# Altium schematic symbol library PowerElectroincs.SchLib: 27 symbols
Pins are listed as number, name and electrical type; pins without a type are passive.

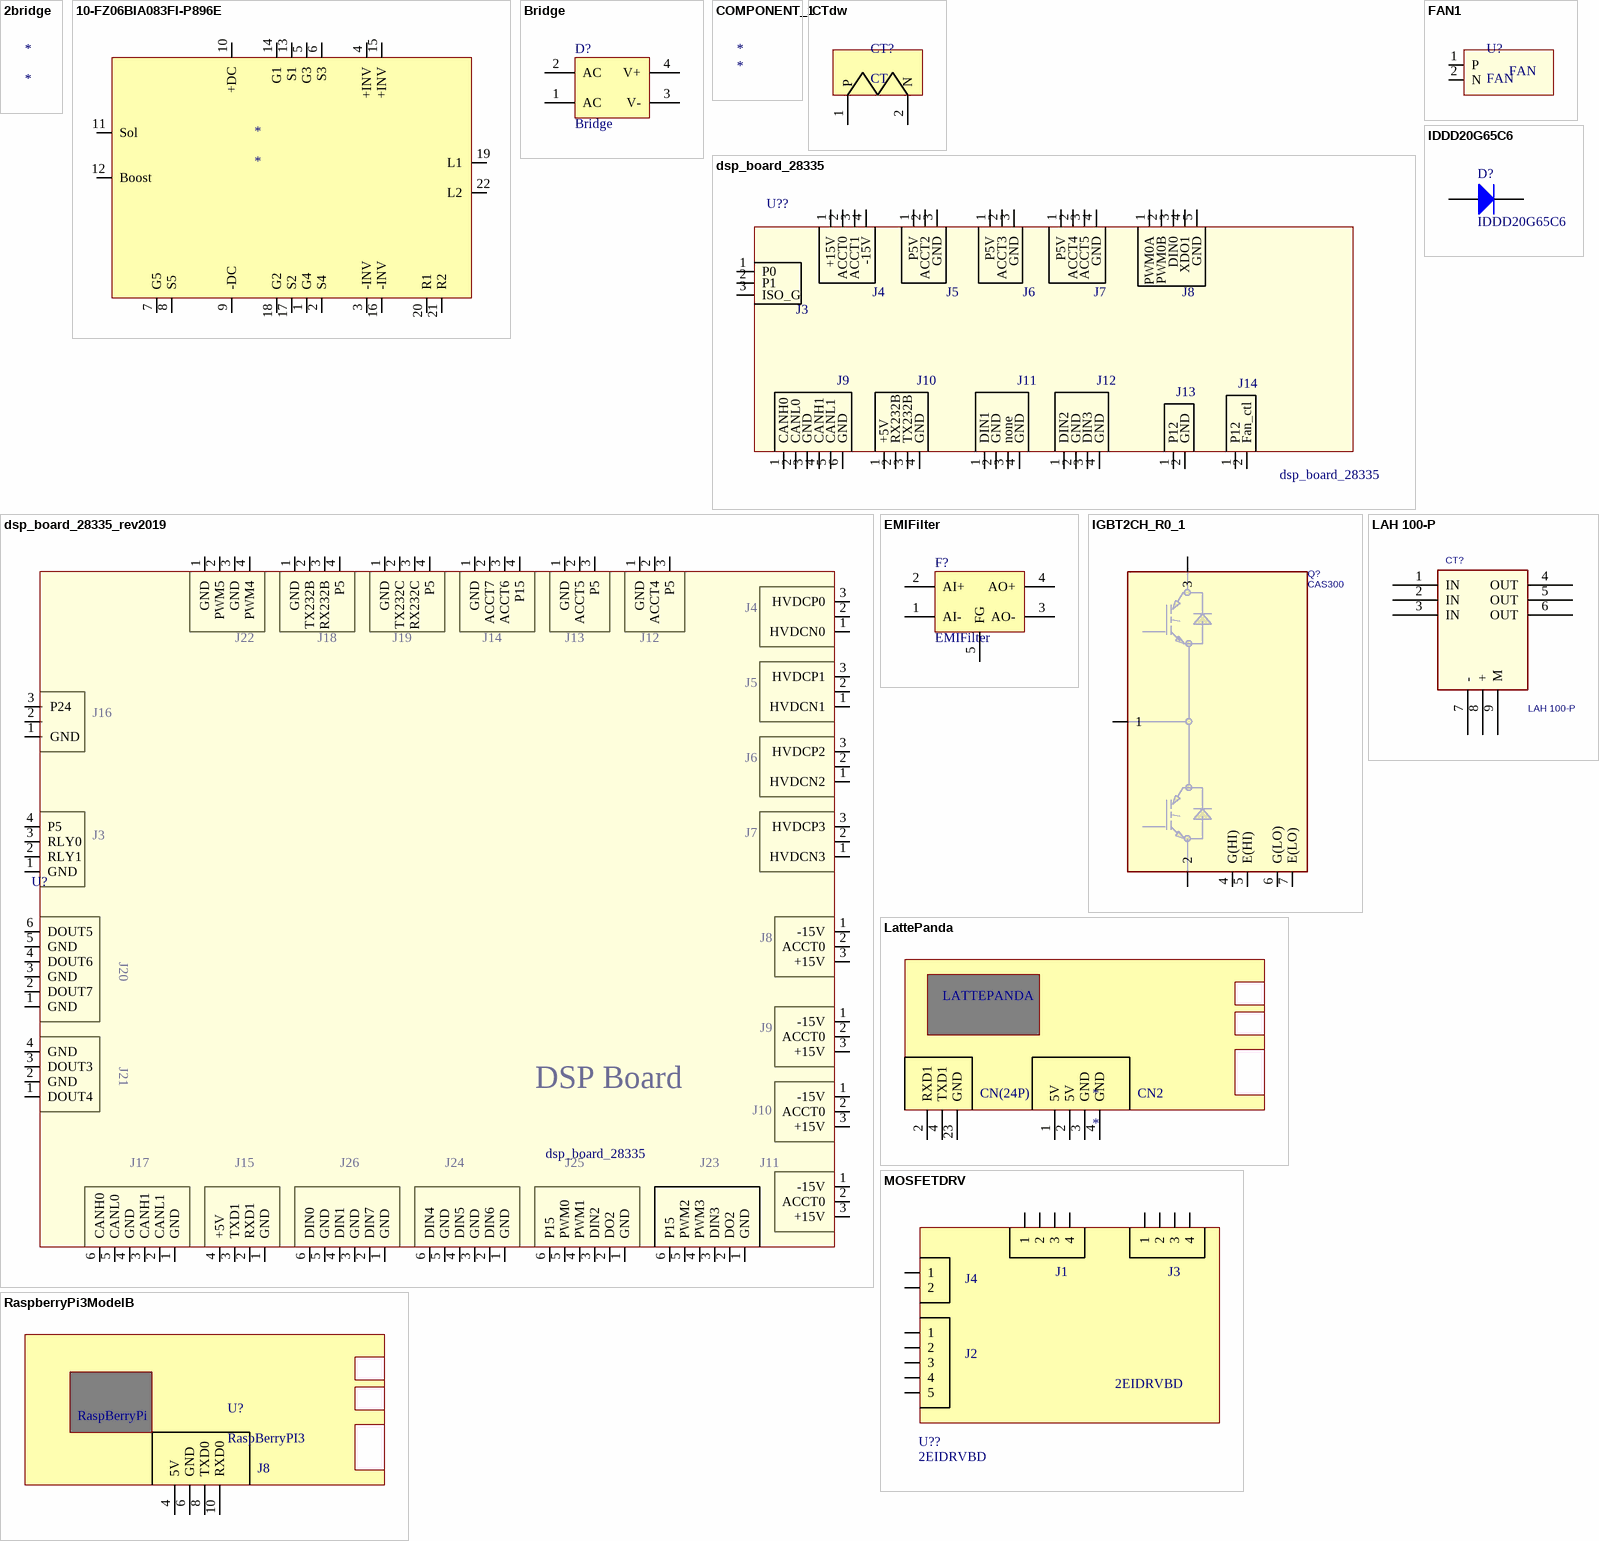
[diagram p0: symbols 2bridge to RaspberryPi3ModelB]

## 2bridge
designator *

## 10-FZ06BIA083FI-P896E
designator *
Manufacturer: Vincotech; PartNumber: 10-FZ06BIA083FI-P896E
pins: 1 G4, 2 S4, 3 -INV, 4 +INV, 5 G3, 6 S3, 7 G5, 8 S5, 9 -DC, 10 +DC, 11 Sol, 12 Boost, 13 S1, 14 G1, 15 +INV, 16 -INV, 17 S2, 18 G2, 19 L1, 20 R1, 21 R2, 22 L2

## Bridge
designator D?
Diode Bridge; Published: 24-Mar-1999; LatestRevisionDate: 17-Jul-2002; LatestRevisionNote: Re-released for DXP Platform.; PackageReference: D-46_6A; Publisher: Altium Limited; PackageDescription: Bridge Rectifier; 4 Terminals; Body 16.8 x 16.8 mm (typ); Pitch 10.67 mm
footprint D-46_6A (Bridge Rectifier; 4 Terminals; Body 16.8 x 16.8 mm (typ); Pitch 10.67 mm)
simulation model BRIDGE (Spice Subcircuit)
pins: 1 AC, 2 AC, 3 V-, 4 V+

## COMPONENT_1
designator *

## CTdw
designator CT?, comment CT
pins: 1 P, 2 N

## dsp_board_28335
designator U??
pins: 1 P5V, 1 P5V, 1 PWM0A, 1 CANH0, 1 +5V, 1 DIN1, 1 DIN2, 1 P12, 1 P12, 1 P0, 1 +15V, 1 P5V, 2 P1, 2 ACCT2, 2 ACCT3, 2 ACCT4, 2 PWM0B, 2 CANL0, 2 RX232B, 2 GND, 2 GND, 2 GND, 2 Fan_ctl, 2 ACCT0, 3 ISO_G, 3 GND, 3 ACCT5, 3 DIN0, 3 TX232B, 3 none, 3 DIN3, 3 ACCT1, 3 GND, 3 GND, 4 XDO1, 4 CANH1, 4 GND, 4 -15V, 4 GND, 4 GND, 4 GND, 5 GND, 5 CANL1, 6 GND
text: J4; J5; J6; J7; J8; J3; J9; J10; J11; J12; J14; J13

## dsp_board_28335_rev2019
designator U?, comment dsp_board_28335
by yechan; PartNumber: DSP28335_REV2019; Manufacturer: WiPowerOne
pins: 1 GND, 1 GND, 1 GND, 1 GND, 1 GND, 1 GND, 1 GND, 1 GND, 1 HVDCN0, 1 HVDCN1, 1 HVDCN2, 1 HVDCN3, 1 -15V, 1 -15V, 1 -15V, 1 -15V, 1 GND, 1 DOUT4, 1 GND, 1 GND, 1 GND, 1 GND, 1 GND, 1 GND, 2 RLY1, 2, 2 PWM5, 2 TX232B, 2 TX232C, 2 ACCT7, 2 ACCT5, 2 ACCT4, 2, 2, 2, 2, 2 ACCT0, 2 ACCT0, 2 ACCT0, 2 ACCT0, 2 DOUT7, 2 GND, 2 CANL1, 2 RXD1, 2 DIN7, 2 DIN6, 2 DO2, 2 DO2, 3 RLY0, 3 P24, 3 GND, 3 RX232B, 3 RX232C, 3 ACCT6, 3 P5, 3 P5, 3 HVDCP0, 3 HVDCP1, 3 HVDCP2, 3 HVDCP3, 3 +15V, 3 +15V, 3 +15V, 3 +15V, 3 GND, 3 DOUT3, 3 CANH1, 3 TXD1, 3 GND, 3 GND, 3 DIN2, 3 DIN3, 4 P5, 4 PWM4, 4 P5, 4 P5, 4 P15, 4 DOUT6, 4 GND, 4 GND, 4 +5V, 4 DIN1, 4 DIN5, 4 PWM1, 4 PWM3, 5 GND, 5 CANL0, 5 GND, 5 GND, 5 PWM0, 5 PWM2, 6 DOUT5, 6 CANH0, 6 DIN0, 6 DIN4, 6 P15, 6 P15
text: J4; J22; J18; J19; J14; J13; J12; J5; J16; J6; J3; J7; J8; J20; J9; J21; DSP Board; J10; J17; J15; J26; J24; J25; J23; J11

## EMIFilter
designator F?
Diode Bridge; Published: 24-Mar-1999; LatestRevisionDate: 17-Jul-2002; LatestRevisionNote: Re-released for DXP Platform.; PackageReference: D-46_6A; Publisher: Altium Limited; PackageDescription: Bridge Rectifier; 4 Terminals; Body 16.8 x 16.8 mm (typ); Pitch 10.67 mm
footprint D-46_6A (Bridge Rectifier; 4 Terminals; Body 16.8 x 16.8 mm (typ); Pitch 10.67 mm)
simulation model BRIDGE (Spice Subcircuit)
pins: 1 AI-, 2 AI+, 3 AO-, 4 AO+, 5 FG

## FAN1
designator U?, comment FAN
Manufacturer: *; Part Number: *
pins: 1 P, 2 N

## IDDD20G65C6
designator D?
Default Diode; Published: 8-Jun-2000; LatestRevisionDate: 17-Jul-2002; LatestRevisionNote: Re-released for DXP Platform.; PackageVersion: Sep-1996; PackageReference: PG-HDSOP-10; Publisher: Altium Limited; PackageDescription: PG-HDSOP-10
simulation model DIODE (Diode)
signal-integrity model Diode
footprint PG-HDSOP-10
pins: 3 A, 6 K

## IGBT2CH_R0_1
designator Q?, comment CAS300
Manufacturer: CREE; Part Number: CAS300M12BM2
footprint CAS300
pins: 1, 2, 3, 4 G(HI), 5 E(HI), 6 G(LO), 7 E(LO)

## LAH 100-P
designator CT?
footprint LAH_100
pins: 1 IN, 2 IN, 3 IN, 4 OUT, 5 OUT, 6 OUT, 7 -, 8 +, 9 M

## LattePanda
designator *
pins: 1 5V, 2 5V, 2 RXD1, 3 GND, 4 GND, 4 TXD1, 23 GND
text: LATTEPANDA; CN(24P); CN2

## MOSFETDRV
designator U??, comment 2EIDRVBD
pins: J4-1 1, J4-1 2, J4-1 3, J4-1 1, J4-1 2, J4-1 1, J4-1 2, J4-1 3, J4-1 4, J4-1 5, J4-1 1, J4-1 2, J4-1 3, J4-1 4, J4-1 4
text: J1; J3; J4; J2

## RaspberryPi3ModelB
designator U?, comment RaspBerryPI3
pins: 4 5V, 6 GND, 8 TXD0, 10 RXD0
text: RaspBerryPi; J8

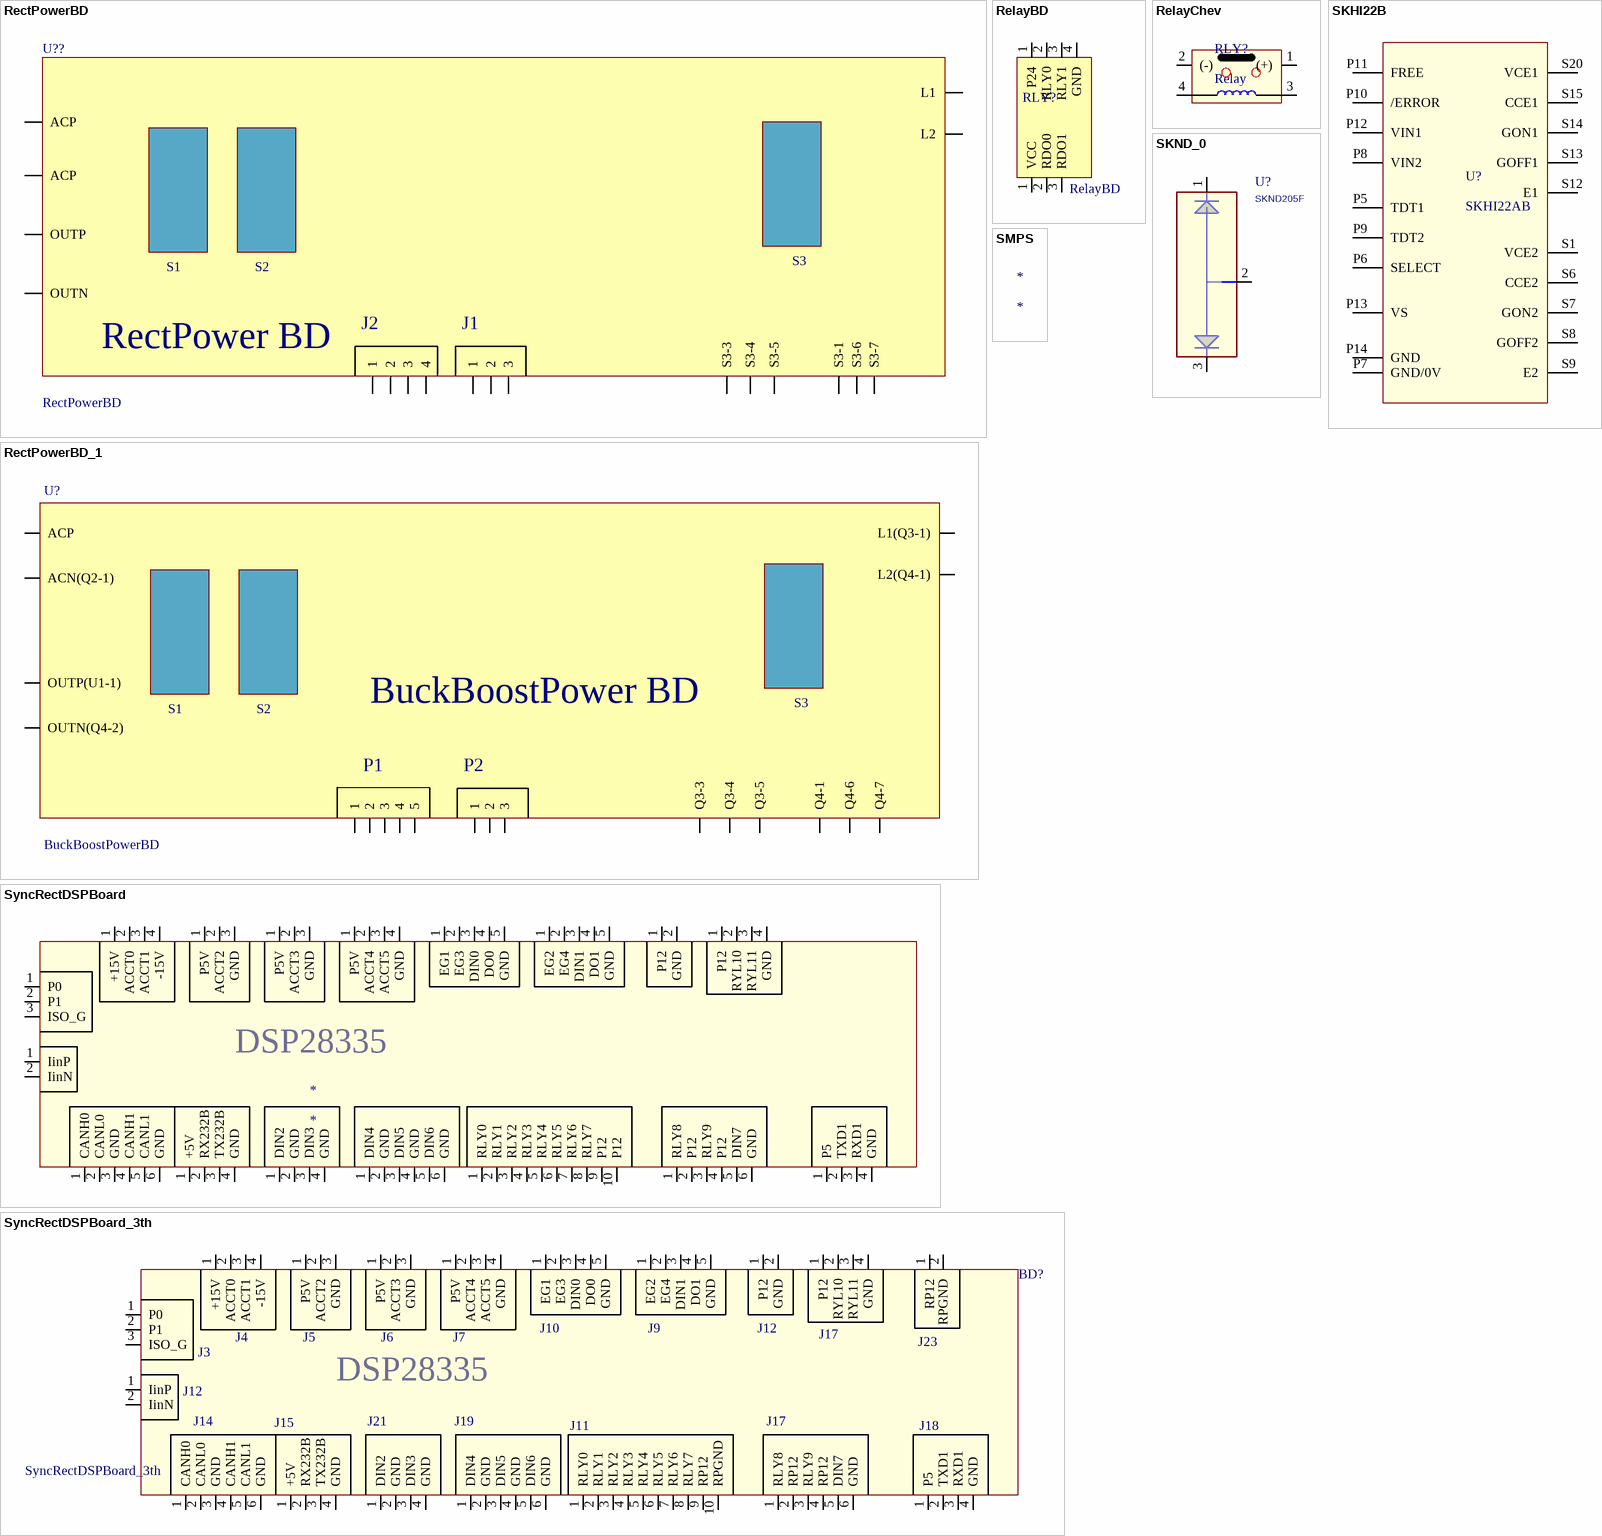
[diagram p1: symbols RectPowerBD to SyncRectDSPBoard_3th]

## RectPowerBD
designator U??
pins: ACP, ACP, L1, L2, OUTN, OUTP, S3-1, S3-3, S3-3 1, S3-3 2, S3-3 3, S3-3 4, S3-3 1, S3-3 2, S3-3 3, S3-4, S3-5, S3-6, S3-7
text: S3; S1; S2; J2; J1; RectPower BD

## RectPowerBD_1
designator U?, comment BuckBoostPowerBD
Manufacturer: WiPowerOne; PartNumber: BuckBoostPowerBD
pins: ACN ACN(Q2-1), ACP, L1 L1(Q3-1), L2 L2(Q4-1), OUTN OUTN(Q4-2), OUTP OUTP(U1-1), P1-1 1, P1-2 2, P1-3 3, P1-4 4, P1-5 5, P2-1 1, P2-2 2, P2-3 3, S3-1 Q4-1, S3-3 Q3-3, S3-4 Q3-4, S3-5 Q3-5, S3-6 Q4-6, S3-7 Q4-7
text: BuckBoostPower BD; S3; S1; S2; P1; P2

## RelayBD
designator RLY?
Manufacturer: WiPowerOne; PartNumber: LM74BTP
pins: 1 VCC, 1 P24, 2 RDO0, 2 RLY0, 3 RDO1, 3 RLY1, 4 GND

## RelayChev
designator RLY?, comment Relay
Manufacturer: *; Part Number: *
pins: 1 (+), 2 (-), 3, 4

## SKHI22B
designator U?, comment SKHI22AB
Manufacturer: SEMIKRON; ModelNumber: SKHI22AB
footprint SKHI22AB
pins: P5 TDT1, P6 SELECT, P7 GND/0V, P8 VIN2, P9 TDT2, P10 /ERROR, P11 FREE, P12 VIN1, P13 VS, P14 GND, S1 VCE2, S6 CCE2, S7 GON2, S8 GOFF2, S9 E2, S12 E1, S13 GOFF1, S14 GON1, S15 CCE1, S20 VCE1

## SKND_0
designator U?, comment SKND205F
Manufacturer: SEMIKRON; Part Number: SKND 205F06
footprint SKND205F
pins: 1 C_1, 2 COM, 3 C_2

## SMPS
designator *

## SyncRectDSPBoard
designator *
pins: 1 +15V, 1 P5V, 1 P5V, 1 P5V, 1 EG1, 1 CANH0, 1 +5V, 1 DIN2, 1 DIN4, 1 RLY0, 1 P0, 1 EG2, 1 IinP, 1 RLY8, 1 P5, 1 P12, 1 P12, 2 ACCT0, 2 ACCT2, 2 ACCT3, 2 ACCT4, 2 EG3, 2 CANL0, 2 RX232B, 2 GND, 2 GND, 2 P1, 2 EG4, 2 IinN, 2 RLY1, 2 P12, 2 TXD1, 2 GND, 2 RYL10, 3 ACCT1, 3 GND, 3 GND, 3 ACCT5, 3 DIN0, 3 GND, 3 TX232B, 3 DIN3, 3 DIN5, 3 ISO_G, 3 DIN1, 3 RLY2, 3 RLY9, 3 RXD1, 3 RYL11, 4 -15V, 4 GND, 4 DO0, 4 CANH1, 4 GND, 4 GND, 4 GND, 4 DO1, 4 RLY3, 4 P12, 4 GND, 4 GND, 5 GND, 5 CANL1, 5 GND, 5 DIN6, 5 RLY4, 5 DIN7, 6 GND, 6 GND, 6 RLY5, 6 GND, 7 RLY6, 8 RLY7, 9 P12, 10 P12
text: DSP28335

## SyncRectDSPBoard_3th
designator BD?
pins: 1 +15V, 1 P5V, 1 P5V, 1 P5V, 1 EG1, 1 CANH0, 1 +5V, 1 DIN2, 1 DIN4, 1 RLY0, 1 P0, 1 EG2, 1 IinP, 1 RLY8, 1 P5, 1 P12, 1 P12, 1 RP12, 2 ACCT0, 2 ACCT2, 2 ACCT3, 2 ACCT4, 2 EG3, 2 CANL0, 2 RX232B, 2 GND, 2 GND, 2 P1, 2 EG4, 2 IinN, 2 RLY1, 2 RP12, 2 TXD1, 2 GND, 2 RYL10, 2 RPGND, 3 ACCT1, 3 GND, 3 GND, 3 ACCT5, 3 DIN0, 3 GND, 3 TX232B, 3 DIN3, 3 DIN5, 3 ISO_G, 3 DIN1, 3 RLY2, 3 RLY9, 3 RXD1, 3 RYL11, 4 -15V, 4 GND, 4 DO0, 4 CANH1, 4 GND, 4 GND, 4 GND, 4 DO1, 4 RLY3, 4 RP12, 4 GND, 4 GND, 5 GND, 5 CANL1, 5 GND, 5 DIN6, 5 RLY4, 5 DIN7, 6 GND, 6 GND, 6 RLY5, 6 GND, 7 RLY6, 8 RLY7, 9 RP12, 10 RPGND
text: J10; J9; J12; J4; J5; J6; J7; J17; J23; J3; DSP28335; J14; J21; J19; J15; J11; J18

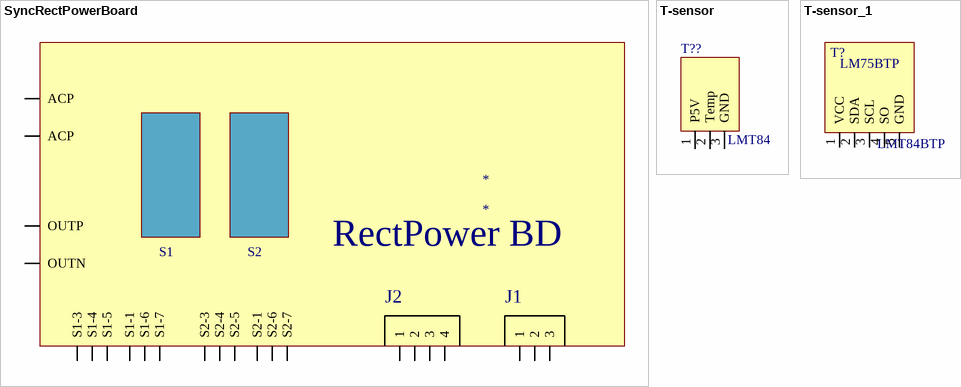
[diagram p2: symbols SyncRectPowerBoard to T-sensor_1]

## SyncRectPowerBoard
designator *
pins: ACP, ACP, OUTN, OUTP, S3-1 S2-1, S3-1 S1-1, S3-3 S2-3, S3-3 1, S3-3 2, S3-3 3, S3-3 4, S3-3 1, S3-3 2, S3-3 3, S3-3 S1-3, S3-4 S2-4, S3-4 S1-4, S3-5 S2-5, S3-5 S1-5, S3-6 S2-6, S3-6 S1-6, S3-7 S2-7, S3-7 S1-7
text: RectPower BD; S1; S2; J2; J1

## T-sensor
designator T??, comment LMT84
pins: 1 P5V, 2 Temp, 3 GND

## T-sensor_1
designator T?, comment LMT84BTP
Manufacturer: WiPowerOne; PartNumber: LM74BTP
pins: 1 VCC, 2 SDA, 3 SCL, 4 SO, 5 GND
text: LM75BTP